# EAGLE library part MAX6957ATL (library MicroNovaDisplayRevX3)
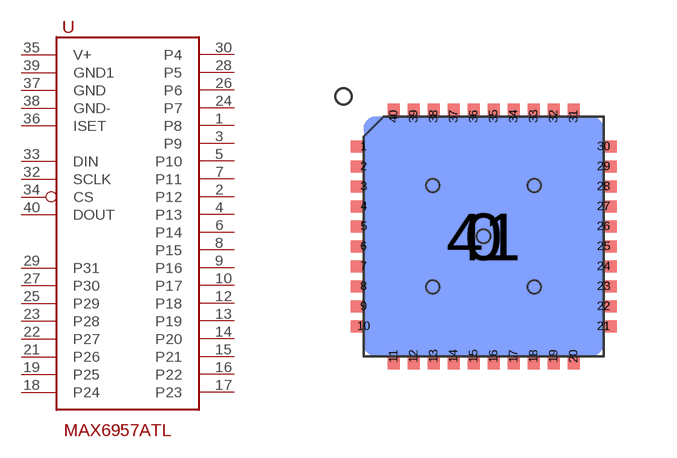
[diagram p0: symbol with the pads of TQFP40; footprint TQFP40]

Designator prefix -

## MAX6957ATL  [TQFP40]
1  P8
2  P12
3  P9
4  P13
5  P10
6  P14
7  P11
8  P15
9  P16
10  P17
12  P18
13  P19
14  P20
15  P21
16  P22
17  P23
18  P24
19  P25
21  P26
22  P27
23  P28
24  P7
25  P29
26  P6
27  P30
28  P5
29  P31
30  P4
32  SCLK
33  DIN
34  CS
35  V+
36  ISET
37  GND
38  GND-
39  GND1
40  DOUT

## Footprint TQFP40 (pad centres in mm)
smd 4 x 4: 0 0,0
smd 0.65 x 0.3: 1 -3,2.25; 2 -3,1.75; 3 -3,1.25; 4 -3,0.75; 5 -3,0.25; 6 -3,-0.25; 7 -3,-0.75; 8 -3,-1.25; 9 -3,-1.75; 10 -3,-2.25; 21 3,-2.25; 22 3,-1.75; 23 3,-1.25; 24 3,-0.75; 25 3,-0.25; 26 3,0.25; 27 3,0.75; 28 3,1.25; 29 3,1.75; 30 3,2.25
smd 0.3 x 0.65: 11 -2.25,-3; 12 -1.75,-3; 13 -1.25,-3; 14 -0.75,-3; 15 -0.25,-3; 16 0.25,-3; 17 0.75,-3; 18 1.25,-3; 19 1.75,-3; 20 2.25,-3; 31 2.25,3; 32 1.75,3; 33 1.25,3; 34 0.75,3; 35 0.25,3; 36 -0.25,3; 37 -0.75,3; 38 -1.25,3; 39 -1.75,3; 40 -2.25,3
smd 6 x 6 bottom: 41 0,0
hole 0.33 at -1.27,1.27
hole 0.33 at 1.27,1.27
hole 0.33 at 1.27,-1.27
hole 0.33 at -1.27,-1.27
hole 0.33 at 0,0